# Altium schematic symbol library TestPoint.SchLib: 1 symbol
Pins are listed as number, name and electrical type; pins without a type are passive.

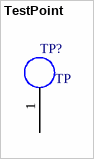
[diagram p0: symbol TestPoint]

## TestPoint
designator TP?, comment TP  (no BOM)
Test point for voltage, current, ect.
footprint TestPoint
pins: 1